# Altium footprint library 3.3kOhm.PcbLib: 1 footprints
Each footprint in its own frame and in the unit in brackets; x right, y up, seen from the top. Pads: shape width x height; smd on the part's side, far side on the other; paste and mask are expansions set on the pad; w line width, h text height; cw(c..) or ccw(c..) is an arc to the next point about the centre after c.
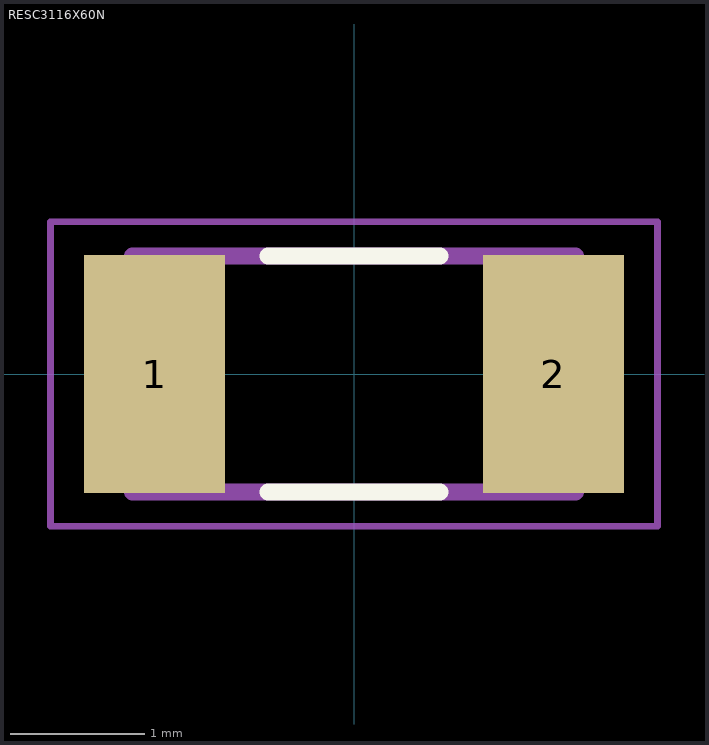
[diagram p0: the footprint, top view; thin cyan lines are the x and y axes]

## RESC3116X60N [mm]
pads (2):
  rect 1.05x1.77 smd: 1(-1.485,0) 2(1.485,0)
Top Overlay:
  lines w0.127: -0.64,-0.88 0.64,-0.88 ; -0.64,0.88 0.64,0.88
Mechanical 13:
  lines w0.127: -1.65,-0.88 -1.65,0.88 1.65,0.88 1.65,-0.88 -1.65,-0.88
Mechanical 15:
  lines w0.05: -2.26,-1.135 -2.26,1.135 2.26,1.135 2.26,-1.135 -2.26,-1.135
3D body "CRCW12063K30JNEB.STEP": height 0.6, standoff 0, extent -1.6,-0.8 1.6,0.8